# EAGLE library part TEST_MATE_TYPE_1 (library test-mate)
TestMate Type 1 UUT footprint
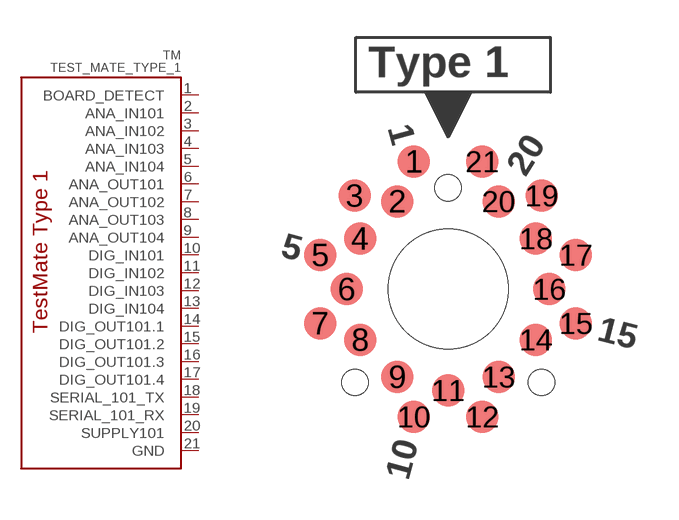
[diagram p1: symbol with the pads of TEST_MATE_TYPE_1; footprint TEST_MATE_TYPE_1]

Designator prefix TM

## TEST_MATE_TYPE_1  [TEST_MATE_TYPE_1]
1  BOARD_DETECT
2  ANA_IN101
3  ANA_IN102
4  ANA_IN103
5  ANA_IN104
6  ANA_OUT101
7  ANA_OUT102
8  ANA_OUT103
9  ANA_OUT104
10  DIG_IN101
11  DIG_IN102
12  DIG_IN103
13  DIG_IN104
14  DIG_OUT101.1
15  DIG_OUT101.2
16  DIG_OUT101.3
17  DIG_OUT101.4
18  SERIAL_101_TX
19  SERIAL_101_RX
20  SUPPLY101
21  GND

## Footprint TEST_MATE_TYPE_1 (pad centres in mm)
smd 1.3 x 1.3: 1 -1.37,5.12; 2 -2.03,3.52; 3 -3.75,3.75; 4 -3.52,2.03; 5 -5.12,1.37; 6 -4.06,0; 7 -5.12,-1.37; 8 -3.52,-2.03; 9 -2.03,-3.52; 10 -1.37,-5.12; 11 0,-4.06; 12 1.37,-5.12; 13 2.03,-3.52; 14 3.52,-2.03; 15 5.12,-1.37; 16 4.06,0; 17 5.12,1.37; 18 3.52,2.03; 19 3.75,3.75; 20 2.03,3.52; 21 1.37,5.12
hole 4.8 at 0,0
hole 1.05 at -3.74,-3.74
hole 1.05 at 0,4.06
hole 1.05 at 3.74,-3.74